# EAGLE library part AD845 (library analog-devices)
Precision, 16 MHz CBFET Op Amp Source: http://www.analog.com/static/imported-files/data_sheets/AD845.pdf
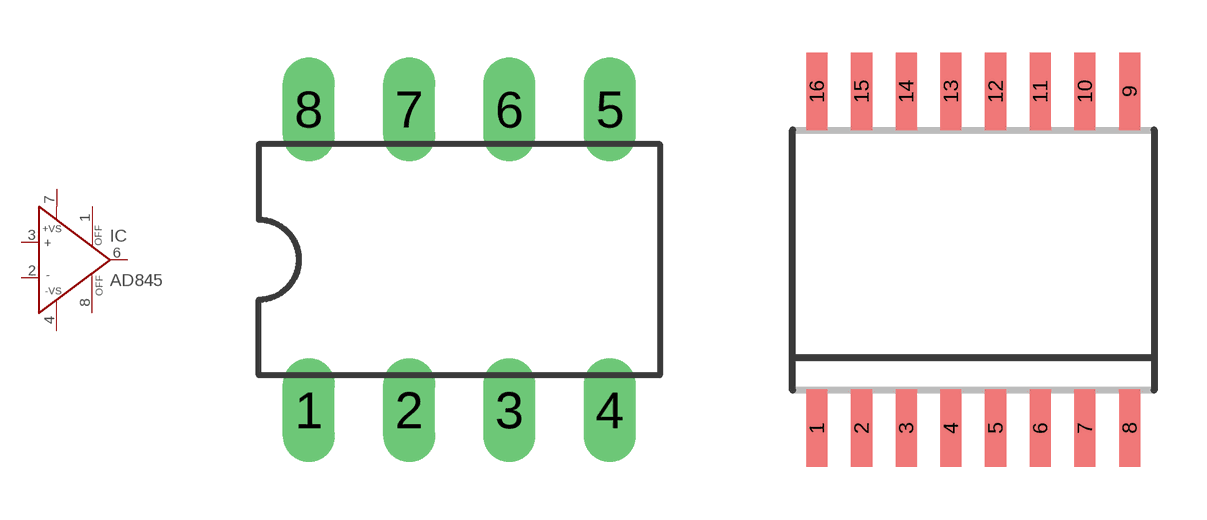
[diagram p93: symbol with the pads of DIL08; footprints DIL08, SOIC16R]

Designator prefix IC

## AD845N (MF: ALTERA CORPORATION; MPN: AD845KNZ; OC_FARNELL: 9605649; OC_NEWARK: 59K6757)  [DIL08]
1  OFF  pas
2  IN-  in
3  IN+  in
4  -VS  in
6  OUT  out
7  +VS  in
8  OFF  pas

## AD845R16 (MF: ALTERA CORPORATION; MPN: AD845JR-16; OC_FARNELL: unknown; OC_NEWARK: 05F7719)  [SOIC16R]
3  OFF  pas
4  IN-  in
5  IN+  in
6  -VS  in
12  OUT  out
13  +VS  in
14  OFF  pas

## Footprint DIL08 (pad centres in mm)
Dual In Line Package
drill 0.813 long: 1 -3.81,-3.81; 2 -1.27,-3.81; 3 1.27,-3.81; 4 3.81,-3.81; 5 3.81,3.81; 6 1.27,3.81; 7 -1.27,3.81; 8 -3.81,3.81

## Footprint SOIC16R (pad centres in mm)
16-Lead SOIC (R) Package Source: http://www.analog.com/static/imported-files/data_sheets/AD745.pdf
smd 0.6 x 2.2: 1 -4.445,-4.775; 2 -3.175,-4.775; 3 -1.905,-4.775; 4 -0.635,-4.775; 5 0.635,-4.775; 6 1.905,-4.775; 7 3.175,-4.775; 8 4.445,-4.775; 9 4.445,4.8; 10 3.175,4.8; 11 1.905,4.8; 12 0.635,4.8; 13 -0.635,4.8; 14 -1.905,4.8; 15 -3.175,4.8; 16 -4.445,4.8